# Altium schematic symbol library CL21C100CBANNNC.SchLib: 1 symbol
Pins are listed as number, name and electrical type; pins without a type are passive.

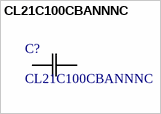
[diagram p0: symbol CL21C100CBANNNC]

## CL21C100CBANNNC
designator C?
No Description Available; Mfr_Name: Samsung; Type: DEV; Copyright: Copyright (C) 2021 Ultra Librarian. All rights reserved.; Manufacturer_Part_Number: CL21C100CBANNNC; Digi-Key_Part_Number_1: 1276-2561-2-ND; Digi-Key_Part_Number_2: 1276-2561-1-ND; Digi-Key_Part_Number_3: 1276-2561-6-ND; RefDes: RefDes
footprint CAP_CL21_SAM-M
pins: 1, 2